# Altium footprint library Adafruit PyGamer.PCBLIB: 205 footprints (part 12 of 13)
Each footprint in its own frame and in the unit in brackets; x right, y up, seen from the top. Pads: shape width x height; smd on the part's side, far side on the other; paste and mask are expansions set on the pad; w line width, h text height; cw(c..) or ccw(c..) is an arc to the next point about the centre after c.
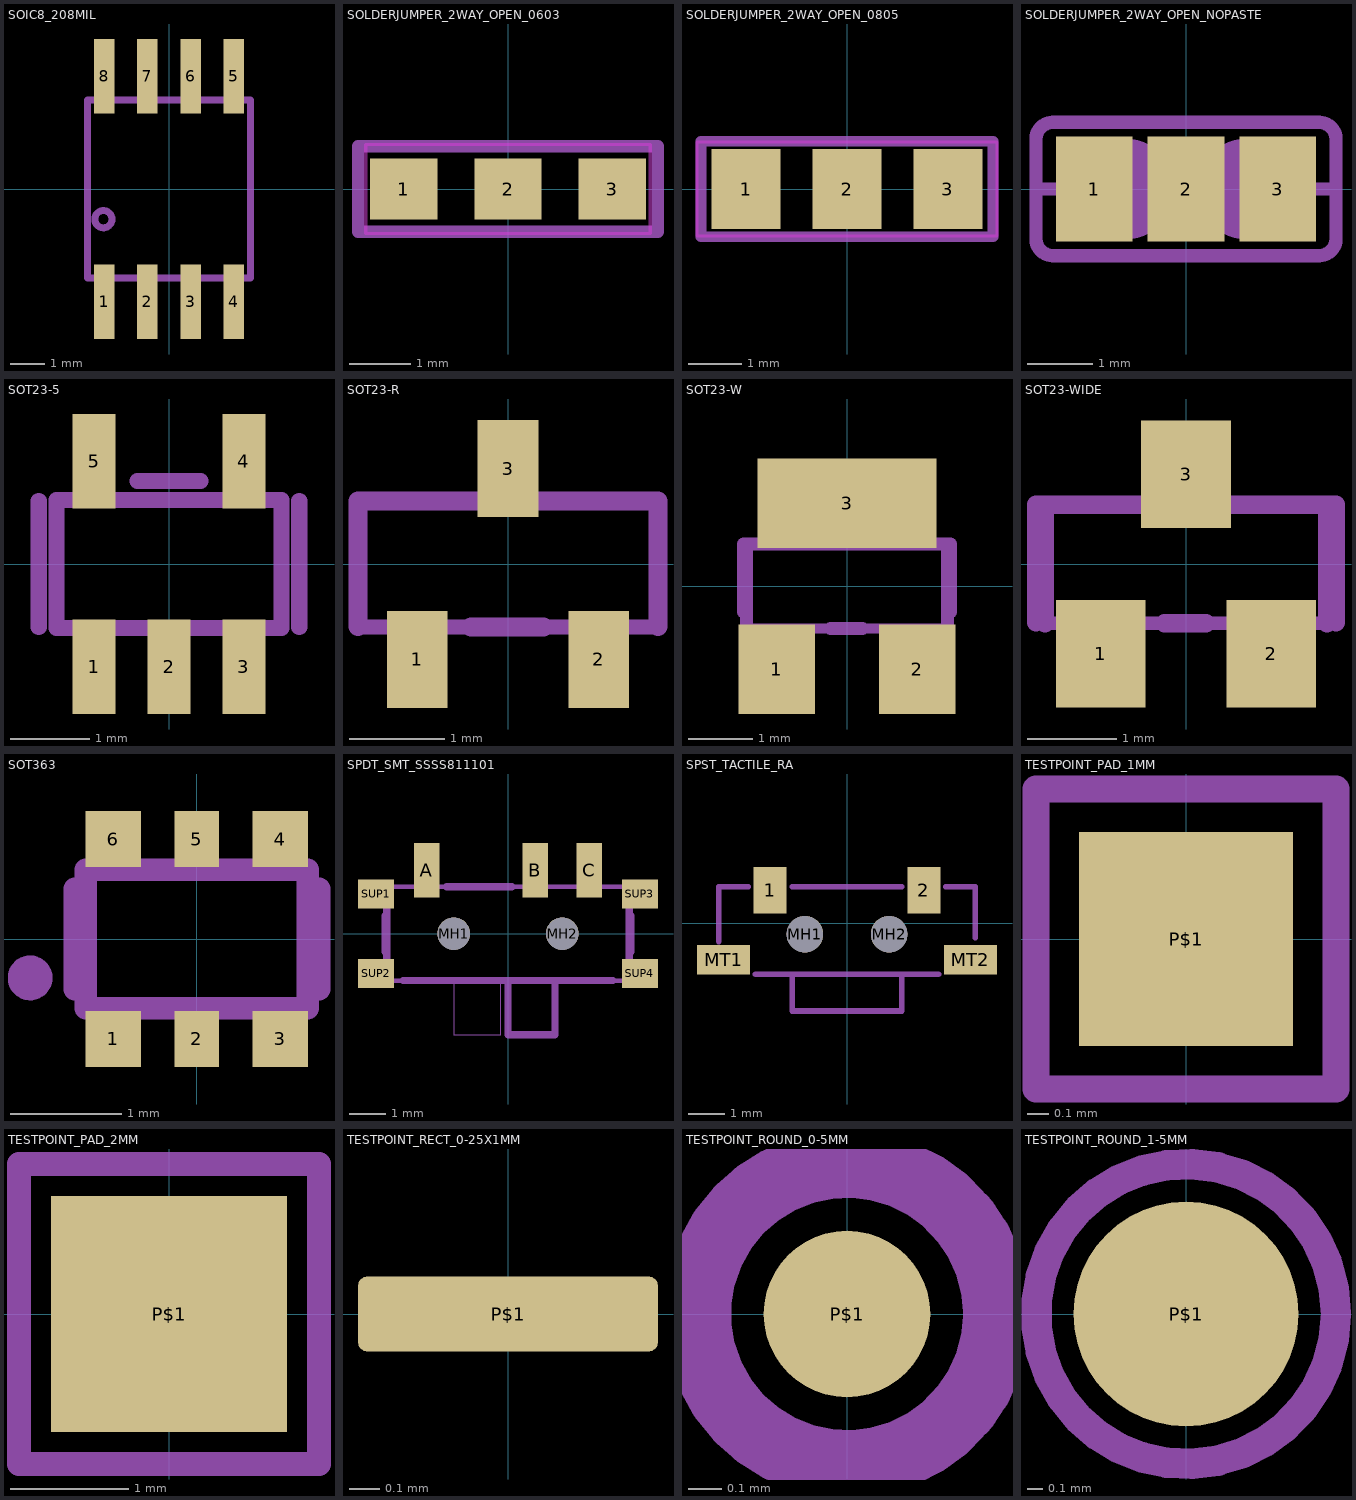
[diagram p11: the footprints below, top view; thin cyan lines are the x and y axes]

## SOIC8_208MIL [mil]
pads (8):
  rect 23.62x86.61 smd: 1(-75,-130.51) 2(-25,-130.51) 3(25,-130.51) 4(75,-130.51) 5(75,130.51) 6(25,130.51) 7(-25,130.51) 8(-75,130.51)
tDocu:
  region: -84.65,-150.2 -84.65,-106.89 -65.35,-106.89 -65.35,-150.2
  region: -34.65,-150.2 -34.65,-106.89 -15.35,-106.89 -15.35,-150.2
  region: 15.35,-150.2 15.35,-106.89 34.65,-106.89 34.65,-150.2
  region: 65.35,-150.2 65.35,-106.89 84.65,-106.89 84.65,-150.2
  region: 65.35,106.89 65.35,150.2 84.65,150.2 84.65,106.89
  region: 15.35,106.89 15.35,150.2 34.65,150.2 34.65,106.89
  region: -34.65,106.89 -34.65,150.2 -15.35,150.2 -15.35,106.89
  region: -84.65,106.89 -84.65,150.2 -65.35,150.2 -65.35,106.89
  lines w8: -94.49,-102.95 94.49,-102.95 94.49,102.95 -94.49,102.95 -94.49,-102.95
tPlace:
  circle w8: c-76,-35 r10
  lines w8: -94.49,-74.8 -94.49,74.8 ; 94.49,-74.8 94.49,74.8

## SOLDERJUMPER_2WAY_OPEN_0603 [mm]
pads (3):
  rect 1.1x1 smd: 1(-1.7,0) 2(0,0) 3(1.7,0)
Top keep-out:
  lines w0.051: -2.323,-0.729 2.323,-0.729 2.323,0.729 -2.323,0.729 -2.323,-0.729
tDocu:
  text "1" at -1.869,-0.293 h0.94
  text "2" at -0.227,-0.293 h0.94
  text "3" at 1.527,-0.293 h0.94
tPlace:
  lines w0.203: -2.45,-0.7 2.45,-0.7 2.45,0.7 -2.45,0.7 -2.45,-0.7

## SOLDERJUMPER_2WAY_OPEN_0805 [mil]
pads (3):
  rect 51.18x59.06 smd: 1(-74.8,0) 2(0,0) 3(74.8,0)
Top keep-out:
  lines w2: -111.14,-34.76 111.14,-34.76 111.14,34.76 -111.14,34.76 -111.14,-34.76
tDocu:
  text "1" at -80.71,-7.87 h37.2
  text "2" at -5.91,-7.87 h37.2
  text "3" at 68.9,-7.87 h37.2
tPlace:
  lines w8: -108.27,-35.43 108.27,-35.43 108.27,35.43 -108.27,35.43 -108.27,-35.43

## SOLDERJUMPER_2WAY_OPEN_NOPASTE [mil]
pads (3):
  rect 46x63 smd paste+0 mask+0: 1(-55,0) 2(0,0) 3(55,0)
Top Solder:
  region: -82,-35 -82,35 82,35 82,-35
tDocu:
  region: -20,-30 -20,30 20,30 20,-30
  lines w8: -85,0 -65,0 ; 65,0 85,0
  lines w50: -35,-5 cw(c-35,0) -35,5 ; 35,-5 ccw(c35,0) 35,5
  text "1" at -130,-25 h77.5
  text "3" at 100,-25 h77.5
tPlace:
  lines w8: -90,-30 ccw(c-80,-30) -80,-40 80,-40 ccw(c80,-30) 90,-30 90,30 ccw(c80,30) 80,40 -80,40 ccw(c-80,30) -90,30 -90,-30

## SOT23-5 [mil]
pads (5):
  rect 21.65x47.24 smd: 1(-37.4,-51.19) 2(0,-51.19) 3(37.4,-51.19) 4(37.4,51.19) 5(-37.4,51.19)
tDocu:
  region: -47.24,-59.06 -47.24,-33.46 -27.56,-33.46 -27.56,-59.06
  region: -9.84,-59.06 -9.84,-33.46 9.84,-33.46 9.84,-59.06
  region: 27.56,-59.06 27.56,-33.46 47.24,-33.46 47.24,-59.06
  region: 27.56,33.46 27.56,59.06 47.24,59.06 47.24,33.46
  region: -47.24,33.46 -47.24,59.06 -27.56,59.06 -27.56,33.46
  lines w8: -56,-31.91 56,-31.91 56,31.91 -56,31.91 -56,-31.91
tPlace:
  lines w8: -64.96,-31.5 -64.96,31.5 ; -15.75,41.34 15.75,41.34 ; 64.96,-31.5 64.96,31.5

## SOT23-R [mil]
pads (3):
  rect 25x40 smd: 1(-37.4,-39.37) 2(37.4,-39.37) 3(0,39.37)
tDocu:
  region: -9,28 -9,51 9,51 9,28
  region: 28,-51 28,-28 46,-28 46,-51
  region: -46,-51 -46,-28 -28,-28 -28,-51
  lines w6: -61.91,26 -61.91,-26 61.91,-26 61.91,26
  lines w8: -61.91,26 61.91,26
tPlace:
  lines w8: -61.91,-25.69 -61.91,26 -22.19,26 ; -15.21,-26 14.66,-26 ; 22.19,26 61.91,26 61.91,-25.69

## SOT23-W [mil]
pads (3):
  rect 47.24x55.12 smd: 1(-43.31,-51.18) 2(43.31,-51.18)
  rect 110.24x55.12 smd: 3(0,51.18)
tDocu:
  region: -9,28 -9,51 9,51 9,28
  region: 28,-51 28,-28 46,-28 46,-51
  region: -46,-51 -46,-28 -28,-28 -28,-51
  lines w6: -61.91,-26 61.91,-26
  lines w8: -61.91,-26 -61.91,26 61.91,26 61.91,-26
tPlace:
  lines w8: -63.87,-15.69 -63.87,26 ; -10.21,-26 9.66,-26 ; 63.87,-15.69 63.87,26

## SOT23-WIDE [mm]
pads (3):
  rect 1x1.2 smd: 1(-0.95,-1) 2(0.95,-1) 3(0,1)
tDocu:
  region: -0.229,0.711 -0.229,1.295 0.229,1.295 0.229,0.711
  region: 0.711,-1.295 0.711,-0.711 1.168,-0.711 1.168,-1.295
  region: -1.168,-1.295 -1.168,-0.711 -0.711,-0.711 -0.711,-1.295
  lines w0.152: -1.573,-0.66 1.573,-0.66
  lines w0.203: -1.573,-0.66 -1.573,0.66 1.573,0.66 1.573,-0.66
tPlace:
  lines w0.203: -1.672,-0.653 -1.672,0.66 -0.713,0.66 ; -0.236,-0.66 0.223,-0.66 ; 0.713,0.66 1.672,0.66 1.672,-0.653

## SOT363 [mil]
pads (6):
  rect 19.69x19.69 smd: 1(-29.53,-35.43) 3(29.53,-35.43) 4(29.53,35.43) 6(-29.53,35.43)
  rect 15.75x19.69 smd: 2(0,-35.43) 5(0,35.43)
tDocu:
  region: -4.92,-41.34 -4.92,-27.56 4.92,-27.56 4.92,-41.34
  region: -30.51,-41.34 -30.51,-27.56 -20.67,-27.56 -20.67,-41.34
  region: 20.67,-41.34 20.67,-27.56 30.51,-27.56 30.51,-41.34
  region: -30.51,27.56 -30.51,41.34 -20.67,41.34 -20.67,27.56
  region: -4.92,27.56 -4.92,41.34 4.92,41.34 4.92,27.56
  region: 20.67,27.56 20.67,41.34 30.51,41.34 30.51,27.56
  lines w8: -39.37,-24.61 39.37,-24.61 39.37,24.61 -39.37,24.61 -39.37,-24.61
tPlace:
  circle w8: c-59.06,-13.78 r3.94
  lines w8: -43.31,-17.72 -43.31,17.72 ; 43.31,-17.72 43.31,17.72

## SPDT_SMT_SSSS811101 [mil]
pads (9):
  rect 27.56x59.06 smd: A(-88.58,68.9) B(29.53,68.9) C(88.58,68.9)
  round 35.43 hole 35.43 unplated: MH1(-59.06,0) MH2(59.06,0)
  rect 39.37x31.5 smd: SUP1(-143.7,43.31) SUP2(-143.7,-43.31) SUP3(143.7,43.31) SUP4(143.7,-43.31)
tDocu:
  lines w0: -59.06,-51.18 -59.06,-110.24 -7.87,-110.24 -7.87,-51.18
  lines w5: -131.89,-51.18 -59.06,-51.18 -7.87,-51.18 0,-51.18 51.18,-51.18 131.89,-51.18 ; -131.89,51.18 131.89,51.18
  lines w8: -131.89,-51.18 -131.89,51.18 ; 0,-51.18 0,-110.24 51.18,-110.24 51.18,-51.18 ; 131.89,-51.18 131.89,51.18
tPlace:
  lines w8: -133.86,-19.69 -133.86,19.69 ; -114.17,-51.18 114.17,-51.18 ; -66.93,51.18 3.94,51.18 ; 133.86,-19.69 133.86,19.69

## SPST_TACTILE_RA [mm]
pads (6):
  rect 0.9x1.27 smd: 1(-2.1,0.9) 2(2.1,0.9)
  round 1 hole 1 unplated: MH1(-1.15,-0.3) MH2(1.15,-0.3)
  rect 1.45x0.8 smd: MT1(-3.375,-1) MT2(3.375,-1)
tPlace:
  lines w0.152: -3.5,-0.5 -3.5,1 -2.7,1 ; -2.5,-1.4 -1.5,-1.4 ; -1.5,1 1.5,1 ; 2.5,-1.4 1.5,-1.4 ; 2.7,1 3.5,1 3.5,-0.4 ; -1.5,-1.4 1.5,-1.4 ; -1.5,-1.4 -1.5,-2.4 1.5,-2.4 1.5,-1.4

## TESTPOINT_PAD_1MM [mm]
pads (1):
  rect 1x1 smd paste+0: P$1(0,0)
tPlace:
  lines w0.127: -0.7,-0.7 0.7,-0.7 0.7,0.7 -0.7,0.7 -0.7,-0.7

## TESTPOINT_PAD_2MM [mm]
pads (1):
  rect 2x2 smd paste+0: P$1(0,0)
tPlace:
  lines w0.203: -1.27,-1.27 1.27,-1.27 1.27,1.27 -1.27,1.27 -1.27,-1.27

## TESTPOINT_RECT_0-25X1MM [mm]
pads (1):
  rrect25% 1x0.25 smd: P$1(0,0)

## TESTPOINT_ROUND_0-5MM [mil]
pads (1):
  rrect100% 19.69x19.69 smd paste+0: P$1(0,0)
tPlace:
  circle w8: c0,0 r17.72

## TESTPOINT_ROUND_1-5MM [mil]
pads (1):
  rrect100% 59.06x59.06 smd paste+0: P$1(0,0)
tPlace:
  circle w8: c0,0 r39.37